# Altium footprint library LABLIB.PcbLib: 213 footprints (part 11 of 14)
Each footprint in its own frame and in the unit in brackets; x right, y up, seen from the top. Pads: shape width x height; smd on the part's side, far side on the other; paste and mask are expansions set on the pad; w line width, h text height; cw(c..) or ccw(c..) is an arc to the next point about the centre after c.
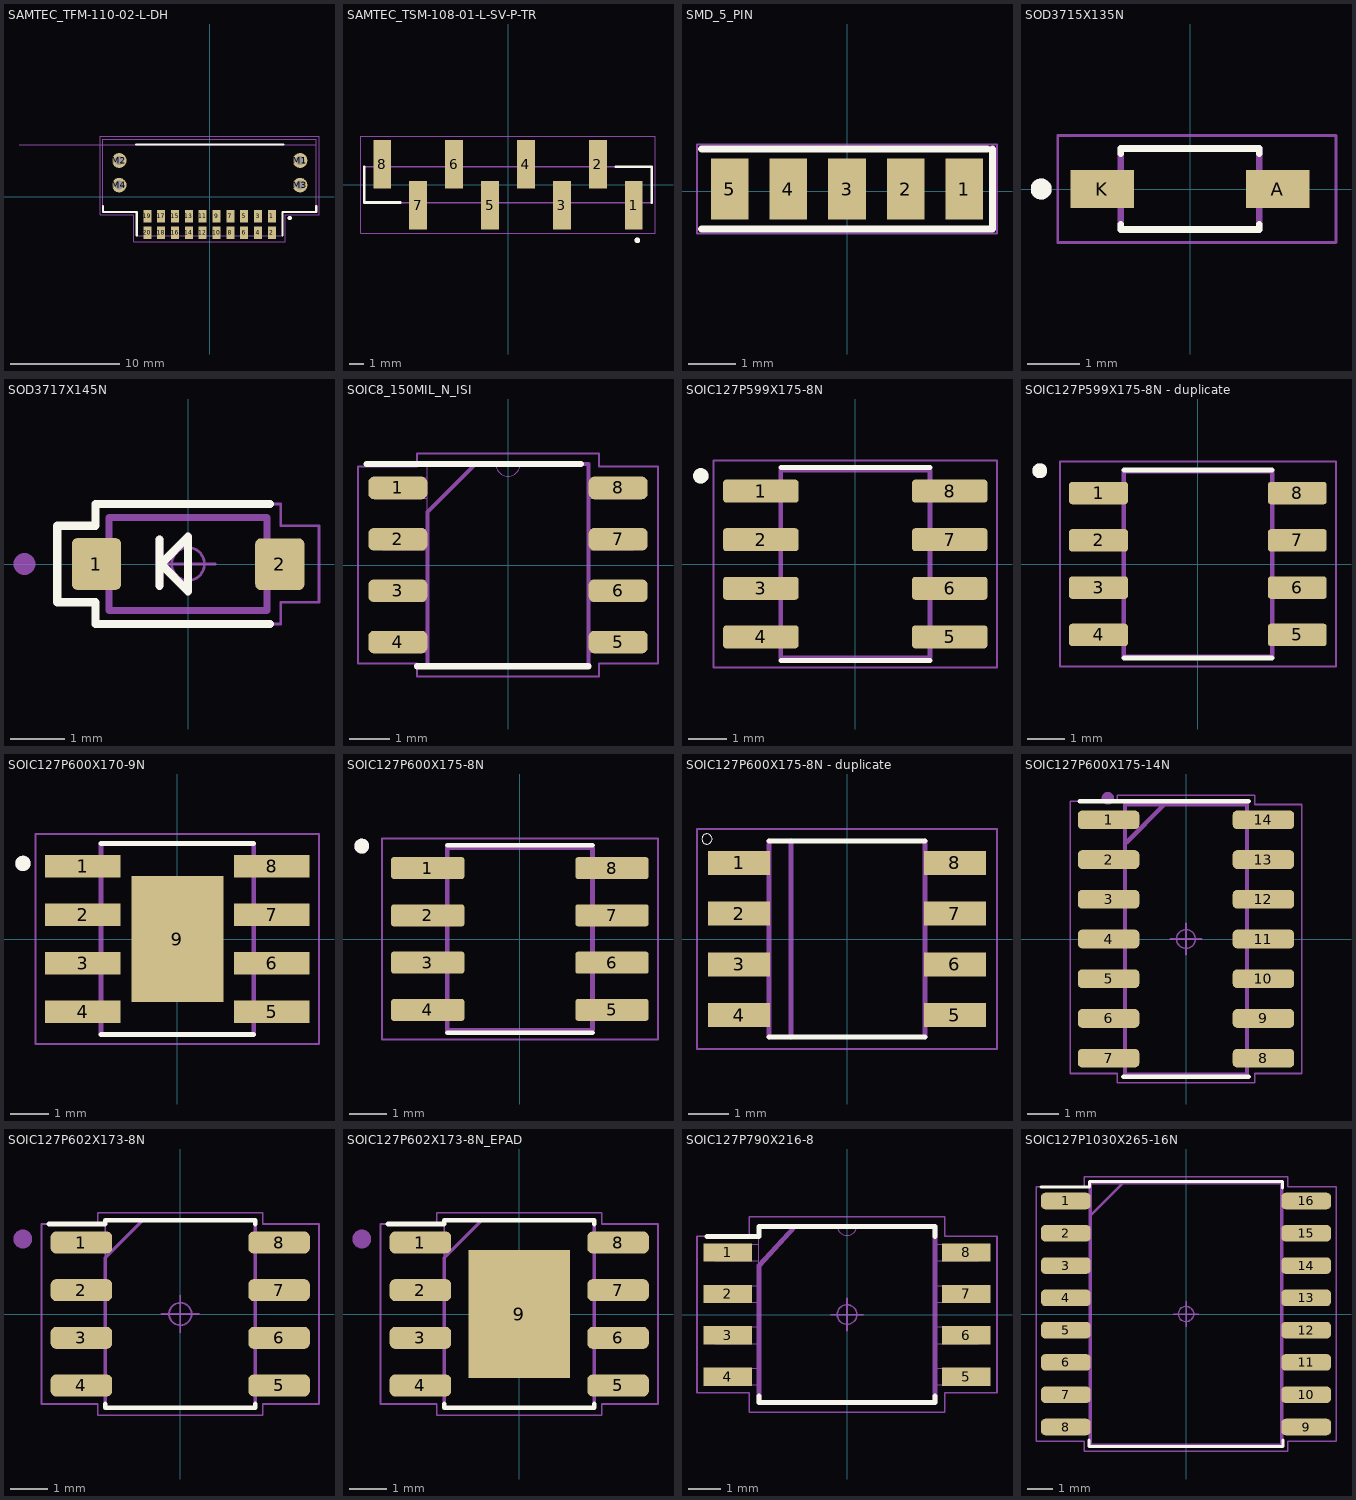
[diagram p10: the footprints below, top view; thin cyan lines are the x and y axes]

## SAMTEC_TFM-110-02-L-DH [mm]
pads (24):
  rect 0.74x1.14 smd: 1(5.715,-1.795) 2(5.715,-3.315) 3(4.445,-1.795) 4(4.445,-3.315) 5(3.175,-1.795) 6(3.175,-3.315) 7(1.905,-1.795) 8(1.905,-3.315) 9(0.635,-1.795) 10(0.635,-3.315) 11(-0.635,-1.795) 12(-0.635,-3.315) 13(-1.905,-1.795) 14(-1.905,-3.315) 15(-3.175,-1.795) 16(-3.175,-3.315) 17(-4.445,-1.795) 18(-4.445,-3.315) 19(-5.715,-1.795) 20(-5.715,-3.315)
  round 1.348 hole 0.84: M1(8.305,3.315) M2(-8.305,3.315) M3(8.305,1.055) M4(-8.305,1.055)
Top Overlay:
  circle w0.2: c7.355,-1.965 r0.1
  lines w0.2: -9.79,-0.865 -9.79,-1.405 -6.695,-1.405 -6.695,-3.575 ; -6.75,4.785 6.75,4.785 ; 6.695,-3.575 6.695,-1.405 9.79,-1.405 9.79,-0.865
Top Paste:
  region: 9.685,2.375 7.225,2.375 7.225,4.665 9.685,4.665
  region: 9.685,-0.465 7.225,-0.465 7.225,1.995 9.685,1.995
  region: -7.225,2.375 -9.685,2.375 -9.685,4.665 -7.225,4.665
  region: -7.225,-0.465 -9.685,-0.465 -9.685,1.995 -7.225,1.995
Mechanical 13:
  circle w0.2: c7.355,-1.965 r0.1
  lines w0.1: -17.5,4.785 9.79,4.785 ; 9.79,4.785 9.79,-1.405 6.695,-1.405 6.695,-3.575 -6.695,-3.575 -6.695,-1.405 -9.79,-1.405 -9.79,5.285 9.79,5.285 9.79,4.785
  text "PCB EDGE" at -17.6,5.035 h1
Mechanical 15:
  lines w0.05: -10.04,-1.655 -10.04,5.535 10.04,5.535 10.04,-1.655 6.945,-1.655 6.945,-4.135 -6.945,-4.135 -6.945,-1.655 -10.04,-1.655
3D body "TFM-110-02-L-DH.stp": height 6.06, standoff -2.3, extent -9.792,-3.686 9.792,5.306

## SAMTEC_TSM-108-01-L-SV-P-TR [mm]
pads (8):
  rect 1.27x3.43 smd: 1(8.89,-1.46) 2(6.35,1.46) 3(3.81,-1.46) 4(1.27,1.46) 5(-1.27,-1.46) 6(-3.81,1.46) 7(-6.35,-1.46) 8(-8.89,1.46)
Top Overlay:
  circle w0.2: c9.14,-3.935 r0.1
  lines w0.2: -10.16,1.27 -10.16,-1.27 -7.62,-1.27 ; 7.62,1.27 10.16,1.27 10.16,-1.27
Mechanical 13:
  circle w0.2: c9.14,-3.935 r0.1
  lines w0.1: -10.16,-1.27 -10.16,1.27 10.16,1.27 10.16,-1.27 -10.16,-1.27
Mechanical 15:
  lines w0.05: -10.41,-3.425 -10.41,3.425 10.41,3.425 10.41,-3.425 -10.41,-3.425
3D body "TSM-108-01-L-SV-P-TR.stp": height 10.95, standoff 0.03, extent -10.16,-2.642 10.16,2.642

## SMD_5_PIN [mm]
height 4.7
pads (5):
  rect 0.8x1.3 smd mask+0.076: 1(2.5,0.05) 2(1.25,0.05) 3(0,0.05) 4(-1.25,0.05) 5(-2.5,0.05)
Top Overlay:
  lines w0.15: -3.1,-0.8 3.1,-0.8 3.1,0.9 ; -3.1,0.9 3,0.9
Top Courtyard:
  lines w0.05: -3.2,-0.9 3.2,-0.9 3.2,1 -3.2,1 -3.2,-0.9

## SOD3715X135N [mm]
pads (2):
  rect 1.21x0.73 smd: A(1.68,0) K(-1.68,0)
Top Overlay:
  circle w0.2: c-2.85,0 r0.1
  lines w0.127: -1.325,-0.679 -1.325,-0.775 1.325,-0.775 1.325,-0.679 ; -1.325,0.679 -1.325,0.775 1.325,0.775 1.325,0.679
Mechanical 13:
  circle w0.2: c-2.85,0 r0.1
  lines w0.127: -1.325,-0.775 1.325,-0.775 1.325,0.775 -1.325,0.775 -1.325,-0.775
Mechanical 15:
  lines w0.05: -2.535,-1.025 2.794,-1.025 2.794,1.025 -2.535,1.025 -2.535,-1.025
3D body "step_temp.STEP": height 1.44, standoff -0.01, extent -1.825,-0.775 1.825,0.775

## SOD3717X145N [mm]
pads (2):
  rrect22% 0.9x0.95 smd: 1(-1.68,0) 2(1.681,-0.003)
Top Overlay:
  lines w0.15: -0.525,-0.4 -0.525,0.45 ; 1.5,-1.1 -1.7,-1.1 -1.7,-0.7 -2.4,-0.7 -2.4,0.7 -1.7,0.7 -1.7,1.1 1.5,1.1 ; -0.5,0 0,0.5 0,0.375 0,-0.5 -0.5,0
Top Assembly:
  lines w0.127: -1.45,-0.85 1.45,-0.85 1.45,0.85 -1.45,0.85 -1.45,-0.85
  lines w0.15: -0.525,-0.4 -0.525,0.45 ; -0.5,0 0,0.5 0,0.375 0,-0.5 -0.5,0
  text "'.Designator'" at -3.952,-0.622 h1.5
Top Courtyard:
  lines w0.05: -2.4,-0.7 -1.7,-0.7 -1.7,-1.1 1.7,-1.1 1.7,-0.7 2.4,-0.7 2.4,0.7 1.7,0.7 1.7,1.1 1.5,1.1 -1.7,1.1 -1.7,0.7 -2.4,0.7 -2.4,-0.7
Top Component Outline:
  rectangle: 1.525,-0.3 1.925,0.3
  region: -1.525,0.3 -1.925,0.3 -1.925,-0.3 -1.525,-0.3
  lines w0.05: -1.45,-0.85 1.45,-0.85 1.45,0.85 -1.45,0.85 -1.45,-0.85
Top Component Center:
  circle w0.05: c0,0 r0.3
  lines w0.05: -0.5,0 0.5,0 ; 0,-0.5 0,0.5
Mechanical 13:
  circle w0.2: c-3,0 r0.1
3D body "step_temp.STEP": height 1.5, standoff -0.03, extent -1.825,-0.775 1.825,0.775

## SOIC8_150MIL_N_ISI [mil]
pads (8):
  rrect50% 57.5x22 smd paste+0: 1(-107.25,75) 2(-107.25,25) 3(-107.25,-25) 4(-107.25,-75) 5(107.25,-75) 6(107.25,-25) 7(107.25,25) 8(107.25,75)
Top Overlay:
  lines w6: -137.8,98.43 70.87,98.43 ; -88.5,-98.5 78.5,-98.5
Top Assembly:
  lines w3.94: -78.5,-98.5 -78.5,51.42 -31.42,98.5 78.5,98.5 78.5,-98.5 -78.5,-98.5
Top Courtyard:
  lines w1.97: -146,-96 -146,96 -88.5,96 -88.5,108.5 88.5,108.5 88.5,96 146,96 146,-96 88.5,-96 88.5,-108.5 -88.5,-108.5 -88.5,-96 -146,-96
Top Component Outline:
  lines w0: -12,98.5 ccw(c0,98.5) 12,98.5
  lines w1: -122,-85 -78.5,-85 -78.5,-65 -122,-65 -122,-85 ; -122,-35 -78.5,-35 -78.5,-15 -122,-15 -122,-35 ; -122,15 -78.5,15 -78.5,35 -122,35 -122,15 ; -122,65 -78.5,65 -78.5,85 -122,85 -122,65 ; -78.5,-98.5 78.5,-98.5 78.5,98.5 -78.5,98.5 -78.5,-98.5 ; 78.5,-85 122,-85 122,-65 78.5,-65 78.5,-85 ; 78.5,-35 122,-35 122,-15 78.5,-15 78.5,-35 ; 78.5,15 122,15 122,35 78.5,35 78.5,15 ; 78.5,65 122,65 122,85 78.5,85 78.5,65
3D body "SOIC8_150MIL_N_ISI.step": height 69.09, standoff 0, extent -122.01,-98.5 122.01,98.5

## SOIC127P599X175-8N [mm]
pads (8):
  rrect25% 1.97x0.6 smd paste+0 mask+0.102: 1(-2.47,1.905) 2(-2.47,0.635) 3(-2.47,-0.635) 4(-2.47,-1.905) 5(2.47,-1.905) 6(2.47,-0.635) 7(2.47,0.635) 8(2.47,1.905)
Top Overlay:
  circle w0.2: c-4.04,2.305 r0.1
  lines w0.127: -1.95,-2.525 1.95,-2.525 ; -1.95,2.525 1.95,2.525
Mechanical 13:
  circle w0.2: c-4.04,2.305 r0.1
  lines w0.127: -1.95,-2.452 -1.95,2.452 1.95,2.452 1.95,-2.452 -1.95,-2.452
Mechanical 15:
  lines w0.05: -3.705,-2.702 -3.705,2.702 3.705,2.702 3.705,-2.702 -3.705,-2.702
3D body "step_temp.STEP": height 1.75, standoff 0, extent -2.995,-2.452 2.995,2.452

## SOIC127P599X175-8N - duplicate [mm]
pads (8):
  rrect25% 1.58x0.6 smd: 1(-2.67,1.905) 2(-2.67,0.635) 3(-2.67,-0.635) 4(-2.67,-1.905) 5(2.67,-1.905) 6(2.67,-0.635) 7(2.67,0.635) 8(2.67,1.905)
Top Overlay:
  circle w0.2: c-4.25,2.505 r0.1
  lines w0.127: -1.995,-2.525 1.995,-2.525 ; -1.995,2.525 1.995,2.525
Mechanical 13:
  circle w0.2: c-4.25,2.505 r0.1
  lines w0.127: -1.995,-2.5 -1.995,2.5 1.995,2.5 1.995,-2.5 -1.995,-2.5
Mechanical 15:
  lines w0.05: -3.71,-2.75 -3.71,2.75 3.71,2.75 3.71,-2.75 -3.71,-2.75
3D body "step_temp.STEP": height 1.75, standoff 0, extent -3,-2.45 3,2.45

## SOIC127P600X170-9N [mm]
pads (9):
  rect 1.97x0.6 smd: 1(-2.475,1.905) 2(-2.475,0.635) 3(-2.475,-0.635) 4(-2.475,-1.905) 5(2.475,-1.905) 6(2.475,-0.635) 7(2.475,0.635) 8(2.475,1.905)
  rect 2.41x3.3 smd paste-3: 9(0,0)
Top Overlay:
  circle w0.2: c-4.04,1.98 r0.1
  lines w0.127: -2,-2.5 2,-2.5 ; -2,2.5 2,2.5
Top Paste:
  region: 0.762,-1.042 -0.763,-1.042 -0.763,1.04 0.762,1.04
Mechanical 13:
  circle w0.2: c-4.044,1.977 r0.1
  lines w0.127: -2,-2.5 -2,2.5 2,2.5 2,-2.5 -2,-2.5
Mechanical 15:
  lines w0.05: -3.71,-2.75 -3.71,2.75 3.71,2.75 3.71,-2.75 -3.71,-2.75
3D body "step_temp.STEP": height 1.7, standoff 0, extent -3,-2.45 3,2.45

## SOIC127P600X175-8N [mm]
pads (8):
  rrect25% 1.97x0.59 smd paste+0 mask+0.102: 1(-2.475,1.905) 2(-2.475,0.635) 3(-2.475,-0.635) 4(-2.475,-1.905) 5(2.475,-1.905) 6(2.475,-0.635) 7(2.475,0.635) 8(2.475,1.905)
Top Overlay:
  circle w0.2: c-4.25,2.495 r0.1
  lines w0.127: -1.95,-2.52 1.95,-2.52 ; -1.95,2.52 1.95,2.52
Mechanical 13:
  circle w0.2: c-4.25,2.495 r0.1
  lines w0.127: -1.95,-2.45 1.95,-2.45 1.95,2.45 -1.95,2.45 -1.95,-2.45
Mechanical 15:
  lines w0.05: -3.71,-2.7 3.71,-2.7 3.71,2.7 -3.71,2.7 -3.71,-2.7
3D body "step_temp.STEP": height 1.68, standoff 0, extent -3,-2.49 3,2.49

## SOIC127P600X175-8N - duplicate [mm]
pads (8):
  rect 1.55x0.6 smd paste+0 mask+0.102: 1(-2.7,1.905) 2(-2.7,0.635) 3(-2.7,-0.635) 4(-2.7,-1.905) 5(2.7,-1.905) 6(2.7,-0.635) 7(2.7,0.635) 8(2.7,1.905)
Top Overlay:
  circle w0: c-3.5,2.5 r0.127
  lines w0.127: -1.95,-2.45 1.95,-2.45 ; -1.95,2.45 1.95,2.45
Mechanical 13:
  region: 3.1,1.661 2.001,1.661 2.001,2.15 3.1,2.15
  region: 3.102,0.392 2.002,0.392 2.002,0.878 3.102,0.878
  region: 3.103,-0.879 2.001,-0.879 2.001,-0.392 3.103,-0.392
  region: 3.107,-2.15 2,-2.15 2,-1.667 3.107,-1.667
  region: -2,-2.155 -3.105,-2.155 -3.105,-1.66 -2,-1.66
  region: -2.001,-0.882 -3.102,-0.882 -3.102,-0.389 -2.001,-0.389
  region: -2.003,0.387 -3.103,0.387 -3.103,0.883 -2.003,0.883
  region: -2.003,1.659 -3.101,1.659 -3.101,2.153 -2.003,2.153
  lines w0.127: -1.95,-2.45 -1.95,2.45 ; -1.4,-2.45 -1.4,2.45 ; 1.95,-2.45 1.95,2.45
Mechanical 15:
  lines w0.05: -3.75,-2.75 -3.75,2.75 3.75,2.75 3.75,-2.75 -3.75,-2.75
3D body "step_temp.STEP": height 1.75, standoff 0, extent -3,-2.45 3,2.45

## SOIC127P600X175-14N [mm]
pads (14):
  rrect50% 1.97x0.6 smd: 1(-2.475,3.81) 2(-2.475,2.54) 3(-2.475,1.27) 4(-2.475,0) 5(-2.475,-1.27) 6(-2.475,-2.54) 7(-2.475,-3.81) 8(2.475,-3.81) 9(2.475,-2.54) 10(2.475,-1.27) 11(2.475,0) 12(2.475,1.27) 13(2.475,2.54) 14(2.475,3.81)
Top Overlay:
  lines w0.15: -3.4,4.4 2,4.4 ; -2,-4.4 2,-4.4
Top Assembly:
  circle w0.2: c-2.5,4.5 r0.1
  lines w0.127: -1.95,-4.325 -1.95,4.3 1.95,4.3 1.95,-4.325 -1.95,-4.325
  lines w0.15: -1.9,3.1 -0.7,4.3
  text "'.Designator'" at -3.952,-0.622 h1.5
Top Courtyard:
  lines w0.05: -3.7,-4.3 -3.7,4.4 -2.2,4.4 -2.2,4.6 -2.1,4.6 2,4.6 2.2,4.6 2.2,4.3 3.7,4.3 3.7,-4.3 2.2,-4.3 2.2,-4.6 -2.2,-4.6 -2.2,-4.3 -3.7,-4.3
Top Component Center:
  circle w0.05: c0,0 r0.3
  lines w0.05: -0.5,0 0.5,0 ; 0,-0.5 0,0.5

## SOIC127P602X173-8N [mm]
pads (8):
  rrect50% 1.64x0.59 smd: 1(-2.635,1.905) 2(-2.635,0.635) 3(-2.635,-0.635) 4(-2.635,-1.905) 5(2.635,-1.905) 6(2.635,-0.635) 7(2.635,0.635) 8(2.635,1.905)
Top Overlay:
  lines w0.125: -3.5,2.4 -2,2.4 -2,2.5 2,2.5 2,2.4 ; -2,-2.4 -2,-2.5 2,-2.5 2,-2.4
Top Assembly:
  lines w0.1: -2,-2.5 2,-2.5 2,2.5 -1,2.5 -2,1.5 -2,-2.5
  text "'.Designator'" at -3.952,-0.622 h1.5
Top Courtyard:
  lines w0.05: -3.7,-2.4 -3.7,2.4 -2.2,2.4 -2.2,2.7 2.2,2.7 2.2,2.4 3.7,2.4 3.7,-2.4 2.2,-2.4 2.2,-2.7 -2.2,-2.7 -2.2,-2.4 -3.7,-2.4
Top Component Outline:
  region: 3.123,1.645 3.123,2.165 2.234,2.165 2.234,1.645
  region: 2.211,0.892 2.211,0.372 3.1,0.372 3.1,0.892
  region: 3.123,-0.895 3.123,-0.375 2.234,-0.375 2.234,-0.895
  region: 2.211,-1.645 2.211,-2.165 3.1,-2.165 3.1,-1.645
  region: -2.211,-2.165 -2.211,-1.645 -3.1,-1.645 -3.1,-2.165
  region: -2.211,1.645 -2.211,2.165 -3.1,2.165 -3.1,1.645
  region: -2.211,0.375 -2.211,0.895 -3.1,0.895 -3.1,0.375
  region: -2.211,-0.895 -2.211,-0.375 -3.1,-0.375 -3.1,-0.895
  lines w0.05: -2,-2.5 -2,2.5 2,2.5 2,-2.5 -2,-2.5
Top Component Center:
  circle w0.05: c0,0 r0.3
  lines w0.05: -0.5,0 0.5,0 ; 0,-0.5 0,0.5
Mechanical 13:
  circle w0.3: c-4.2,2 r0.1
3D body "MB85RS2MTAPNF-G-BDERE1.STEP": height 1.73, standoff 0, extent -3.01,-2.565 3.01,2.565

## SOIC127P602X173-8N_EPAD [mm]
pads (9):
  rrect50% 1.64x0.59 smd: 1(-2.635,1.905) 2(-2.635,0.635) 3(-2.635,-0.635) 4(-2.635,-1.905) 5(2.635,-1.905) 6(2.635,-0.635) 7(2.635,0.635) 8(2.635,1.905)
  rect 2.718x3.404 smd paste-0.159: 9(0,0)
Top Overlay:
  lines w0.125: -3.5,2.4 -2,2.4 -2,2.5 2,2.5 2,2.4 ; -2,-2.4 -2,-2.5 2,-2.5 2,-2.4
Top Assembly:
  lines w0.1: -2,-2.5 2,-2.5 2,2.5 -1,2.5 -2,1.5 -2,-2.5
  text "'.Designator'" at -3.952,-0.622 h1.5
Top Courtyard:
  lines w0.05: -3.7,-2.4 -3.7,2.4 -2.2,2.4 -2.2,2.7 2.2,2.7 2.2,2.4 3.7,2.4 3.7,-2.4 2.2,-2.4 2.2,-2.7 -2.2,-2.7 -2.2,-2.4 -3.7,-2.4
Top Component Outline:
  region: 3.123,1.645 3.123,2.165 2.234,2.165 2.234,1.645
  region: 2.211,0.892 2.211,0.372 3.1,0.372 3.1,0.892
  region: 3.123,-0.895 3.123,-0.375 2.234,-0.375 2.234,-0.895
  region: 2.211,-1.645 2.211,-2.165 3.1,-2.165 3.1,-1.645
  region: -2.211,-2.165 -2.211,-1.645 -3.1,-1.645 -3.1,-2.165
  region: -2.211,1.645 -2.211,2.165 -3.1,2.165 -3.1,1.645
  region: -2.211,0.375 -2.211,0.895 -3.1,0.895 -3.1,0.375
  region: -2.211,-0.895 -2.211,-0.375 -3.1,-0.375 -3.1,-0.895
  lines w0.05: -2,-2.5 -2,2.5 2,2.5 2,-2.5 -2,-2.5
Top Component Center:
  circle w0.05: c0,0 r0.3
  lines w0.05: -0.5,0 0.5,0 ; 0,-0.5 0,0.5
Mechanical 13:
  circle w0.3: c-4.2,2 r0.1
3D body "MB85RS2MTAPNF-G-BDERE1.STEP": height 1.73, standoff 0, extent -3.01,-2.565 3.01,2.565

## SOIC127P790X216-8 [mil]
pads (8):
  rect 58x22 smd paste+0 mask+0: 1(-144,75) 2(-144,25) 3(-144,-25) 4(-144,-75) 5(144,-75) 6(144,-25) 7(144,25) 8(144,75)
Top Overlay:
  lines w5.91: -169.29,94.49 -106.3,94.49 -106.3,106.3 106.3,106.3 106.3,94.49 ; -106.3,-98.43 -106.3,-106.3 106.3,-106.3 106.3,-98.43
Top Assembly:
  lines w5.91: -106.3,-106.3 -106.3,59.06 -62.99,106.3 106.3,106.3 106.3,-106.3 -106.3,-106.3
  text "'.Designator'" at -155.57,-24.48 h59.06
Top Courtyard:
  lines w1.97: -110.24,118.11 118.11,118.11 118.11,94.49 181.1,94.49 181.1,-94.49 118.11,-94.49 118.11,-118.11 -118.11,-118.11 -118.11,-94.49 -181.1,-94.49 -181.1,94.49 -118.11,94.49 -118.11,118.11 -106.3,118.11
Top Component Outline:
  lines w0: -12,107.5 ccw(c0,107.5) 12,107.5
  lines w1: -159,-85 -106.5,-85 -106.5,-65 -159,-65 -159,-85 ; -159,-35 -106.5,-35 -106.5,-15 -159,-15 -159,-35 ; -159,15 -159,35 -106.5,35 -106.5,15 -159,15 ; -159,65 -106.5,65 -106.5,85 -159,85 -159,65 ; -106.5,-107.5 106.5,-107.5 106.5,107.5 -106.5,107.5 -106.5,-107.5 ; 106.5,-85 159,-85 159,-65 106.5,-65 106.5,-85 ; 106.5,-35 159,-35 159,-15 106.5,-15 106.5,-35 ; 106.5,15 159,15 159,35 106.5,35 106.5,15 ; 106.5,65 106.5,85 159,85 159,65 106.5,65
  text "*" at -104,54.5 h50
Top Component Center:
  circle w1.97: c0,0 r11.81
  lines w1.97: -19.68,0 19.68,0 ; 0,-19.68 0,19.68
3D body "21-0262_W8MS+1_ADI.step": height 84.09, standoff 0, extent -159.02,-107.48 159.02,107.48

## SOIC127P1030X265-16N [mm]
pads (16):
  rrect50% 1.95x0.65 smd: 1(-4.725,4.445) 2(-4.725,3.175) 3(-4.725,1.905) 4(-4.725,0.635) 5(-4.725,-0.635) 6(-4.725,-1.905) 7(-4.725,-3.175) 8(-4.725,-4.445) 9(4.725,-4.445) 10(4.725,-3.175) 11(4.725,-1.905) 12(4.725,-0.635) 13(4.725,0.635) 14(4.725,1.905) 15(4.725,3.175) 16(4.725,4.445)
Top Overlay:
  lines w0.125: -5.7,5 -3.8,5 -3.8,5.207 3.8,5.207 3.8,4.953 ; -3.81,-4.953 -3.81,-5.207 3.81,-5.207 3.81,-4.953
Top Assembly:
  lines w0.1: -3.75,3.88 -2.48,5.15 ; -3.75,-5.15 -3.75,5.15 3.75,5.15 3.75,-5.15 -3.75,-5.15
  text "'.Designator'" at -3.952,-0.622 h1.5
Top Courtyard:
  lines w0.05: -5.9,-5 -5.9,5 -4,5 -4,5.4 3.8,5.4 4,5.4 4,5 5.9,5 5.9,-5 4,-5 4,-5.4 -4,-5.4 -4,-5 -5.9,-5
Top Component Outline:
  region: 5.315,-4.19 4.045,-4.19 4.045,-4.7 5.315,-4.7
  region: 5.315,-2.92 4.045,-2.92 4.045,-3.43 5.315,-3.43
  region: 5.315,-1.65 4.045,-1.65 4.045,-2.16 5.315,-2.16
  region: 5.315,4.7 4.045,4.7 4.045,4.19 5.315,4.19
  region: 5.315,3.43 4.045,3.43 4.045,2.92 5.315,2.92
  region: 5.315,2.16 4.045,2.16 4.045,1.65 5.315,1.65
  region: 5.315,0.89 4.045,0.89 4.045,0.38 5.315,0.38
  region: 5.315,-0.38 4.045,-0.38 4.045,-0.89 5.315,-0.89
  rectangle: -5.315,4.19 -4.045,4.7
  rectangle: -5.315,2.92 -4.045,3.43
  rectangle: -5.315,1.65 -4.045,2.16
  rectangle: -5.315,-4.7 -4.045,-4.19
  rectangle: -5.315,-3.43 -4.045,-2.92
  rectangle: -5.315,-2.16 -4.045,-1.65
  rectangle: -5.315,-0.89 -4.045,-0.38
  rectangle: -5.315,0.38 -4.045,0.89
  lines w0.05: -3.8,-5.2 -3.8,5.2 3.8,5.2 3.8,-5.2 -3.8,-5.2
Top Component Center:
  circle w0.05: c0,0 r0.3
  lines w0.05: -0.5,0 0.5,0 ; 0,-0.5 0,0.5
3D body "ISO1430DW.stp": height 2.65, standoff 0, extent -5.15,-5.15 5.15,5.15